# EAGLE library part AD8606 (library ICs)
Rail to rail I/O, low offset, low bias, low noise dual op amp. 2.7V to 5.5V operation, 10MHz bandwidth.
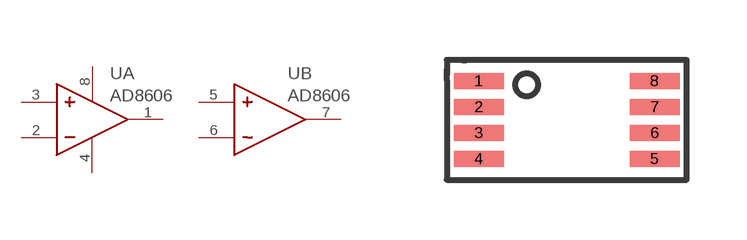
[diagram p4: symbol with the pads of MSOP8; footprint MSOP8]

Designator prefix U; gates A=OPAMP_SUPPLIES B=OPAMP_NOSUPPLIES

## AD8606ARM (DIGIKEY: AD8606ARMZREELCT-ND; HEIGHT: 1; PRICE_PER: 2.4; VALUE: AD8606)  [MSOP8]
1  A:OUT
2  A:-
3  A:+
4  A:V-
5  B:+
6  B:-
7  B:OUT
8  A:V+

## Footprint MSOP8 (pad centres in mm)
smd 1.25 x 0.4: 1 -2.2,0.975; 2 -2.2,0.325; 3 -2.2,-0.325; 4 -2.2,-0.975; 5 2.2,-0.975; 6 2.2,-0.325; 7 2.2,0.325; 8 2.2,0.975